# EAGLE library part MAX98357A (library greg-IC)
MAX98357A - Class D I2S Amplifier The MAX98357A/MAX98357B are digital pulse-code modulation (PCM) input Class D power amplifiers that provide Class AB audio performance with Class D efficiency. These ICs offer five selectable gain settings (3dB, 6dB, 9dB, 12dB, and 15dB) in I2S/left-justified mode set by a single gain select input and a fixed 12dB gain in TDM mode. The digital audio interface is highly flexible with the MAX98357A supporting I2S data and the MAX98357B supporting left-justified data. Both ICs support 8 channel time division multiplexed (TDM) data. The digital audio interface accepts specified sample rates between 8kHz and 96kHz for all supported data formats. The ICs can be configured to produce a left channel, right channel, or (left/2 + right/2) output from the stereo input data. The ICs operate using 16/24/32-bit data for I2S and left-justified modes as well as 16-bit or 32-bit data using TDM mode. The ICs eliminate the need for the external MCLK signal that is typically used for PCM communication.
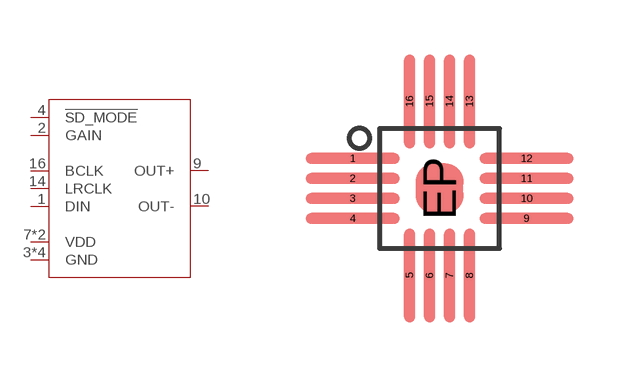
[diagram p5: symbol with the pads of MAXIM_TQFN-16_3X3_T1663-4_LONGPAD; footprint MAXIM_TQFN-16_3X3_T1663-4_LONGPAD]

Designator prefix -

## MAX98357A  [MAXIM_TQFN-16_3X3_T1663-4_LONGPAD]
1  DIN
2  GAIN
3  GND
4  !SD_MODE!
7  VDD
8  VDD
9  OUT+
10  OUT-
11  GND
14  LRCLK
15  GND
16  BCLK
EP  GND

## Footprint MAXIM_TQFN-16_3X3_T1663-4_LONGPAD (pad centres in mm)
smd 2.35 x 0.28: 1 -2.175,0.75; 2 -2.175,0.25; 3 -2.175,-0.25; 4 -2.175,-0.75; 9 2.175,-0.75; 10 2.175,-0.25; 11 2.175,0.25; 12 2.175,0.75
smd 0.28 x 2.35: 5 -0.75,-2.175; 6 -0.25,-2.175; 7 0.25,-2.175; 8 0.75,-2.175; 13 0.75,2.175; 14 0.25,2.175; 15 -0.25,2.175; 16 -0.75,2.175
smd 1.2 x 1.25: EP 0,0